# Altium schematic symbol library OPAMP(1.8-5.5V, 1-Op, 17Mhz, 8-SOIC).SchLib: 1 symbol
Pins are listed as number, name and electrical type; pins without a type are passive.

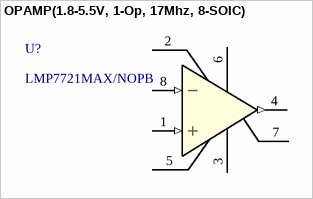
[diagram p0: symbol OPAMP(1.8-5.5V, 1-Op, 17Mhz, 8-SOIC)]

## OPAMP(1.8-5.5V, 1-Op, 17Mhz, 8-SOIC)
designator U?, comment LMP7721MAX/NOPB
3 Femtoampere Input Bias Current Precision Amplifier 8-SOIC -40 to 125; Manufacturer: Texas Instruments; ComponentLink1DescBC: LMP7721Datasheet; ComponentLink2DescA4: LMP7721WebPage; ComponentLink3DescAC: M08APackagePage; Manufacturer_PN: LMP7721MAX/NOPB; Package: 8-SOIC; ComponentLink1URL: http//wwwnationalcom/ds/LM/LMP7721pdf; ComponentLink2URL: http//wwwnationalcom/pf/LM/LMP7721html; ComponentLink3URL: http//wwwnationalcom/packaging/folders/m08ahtml; Datasheet: https://www.ti.com/lit/ds/symlink/lmp7721.pdf?HQS=dis-dk-null-digikeymode-dsf-pf-null-wwe&ts=1765120430467&ref_url=https%253A%252F%252Fwww.ti.com%252Fgeneral%252Fdocs%252Fsuppproductinfo.tsp%253FdistId%253D10%2526gotoUrl%253Dhttps%253A%252F%252Fwww.ti.com%252Flit%252Fgpn%252Flmp7721; Digikey_Link: https://www.digikey.it/en/products/detail/texas-instruments/LMP7721MAX-NOPB/1835129
footprint M08A
pins: 1 IN+ (in), 2 NC, 3 V- (power), 4 OUT (out), 5 NC, 6 V+ (power), 7 NC, 8 IN- (in)